# Altium schematic symbol library USB.SchLib: 1 symbol
Pins are listed as number, name and electrical type; pins without a type are passive.

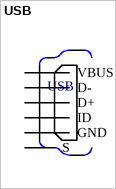
[diagram p0: symbol USB]

## USB
designator USB  (value not drawn)
CONN RCPT USB2.0 MICRO AB SMD RA; Manufacturer: Amphenol ICC (FCI); Manufacturer Part Number: 10104111-0001LF; Snapedu_Url: https://www.snapeda.com/parts/10104111-0001LF/Amphenol%20ICC/view-part/?ref=snap; DigiKeyURL: https://www.digikey.com/product-detail/en/amphenol-fci/10104111-0001LF/609-4053-1-ND/2350359?utm_source=snapeda&utm_medium=aggregator&utm_campaign=symbol; Digi-Key Part Number: 609-4053-1-ND
footprint USB
pins: 1 VBUS (power), 2 D-, 3 D+, 4 ID, 5 GND (power), 6 S (power), 7 S (power), 8 S (power), 9 S (power)